# EAGLE library part OV7670FIFO (library ME433Library)
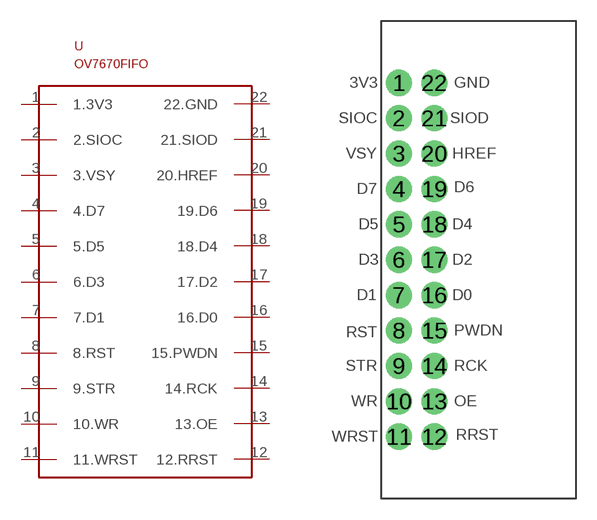
[diagram p10: symbol with the pads of OV7670FIFO; footprint OV7670FIFO]

Designator prefix -

## OV7670FIFO  [OV7670FIFO]
1  1.3V3
2  2.SIOC
3  3.VSY
4  4.D7
5  5.D5
6  6.D3
7  7.D1
8  8.RST
9  9.STR
10  10.WR
11  11.WRST
12  12.RRST
13  13.OE
14  14.RCK
15  15.PWDN
16  16.D0
17  17.D2
18  18.D4
19  19.D6
20  20.HREF
21  21.SIOD
22  22.GND

## Footprint OV7670FIFO (pad centres in mm)
drill 1.016 pad 1.88: 1 0,12.7; 2 0,10.16; 3 0,7.62; 4 0,5.08; 5 0,2.54; 6 0,0; 7 0,-2.54; 8 0,-5.08; 9 0,-7.62; 10 0,-10.16; 11 0,-12.7; 12 2.54,-12.7; 13 2.54,-10.16; 14 2.54,-7.62; 15 2.54,-5.08; 16 2.54,-2.54; 17 2.54,0; 18 2.54,2.54; 19 2.54,5.08; 20 2.54,7.62; 21 2.54,10.16; 22 2.54,12.7